# Altium footprint library SOT95P237X112-3N-2-V.PcbLib: 1 footprints
Each footprint in its own frame and in the unit in brackets; x right, y up, seen from the top. Pads: shape width x height; smd on the part's side, far side on the other; paste and mask are expansions set on the pad; w line width, h text height; cw(c..) or ccw(c..) is an arc to the next point about the centre after c.
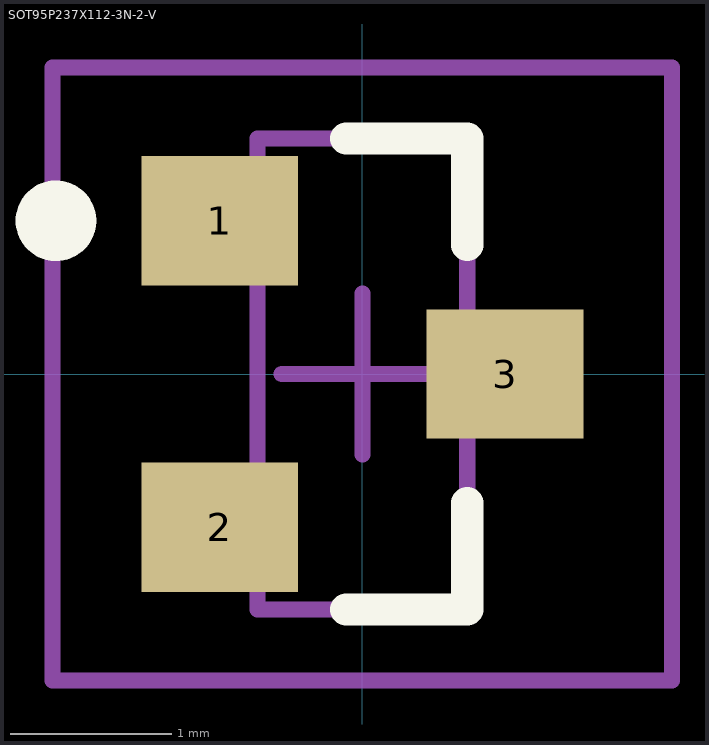
[diagram p0: the footprint, top view; thin cyan lines are the x and y axes]

## SOT95P237X112-3N-2-V [mm] "SOT,0.95mm pitch;3 pin,1.30mm W X 2.92mm L X 1.12mm H body"
height 1.12
pads (3):
  rect 0.972x0.802 smd paste+0 mask+0: 1(-0.885,0.95) 2(-0.885,-0.95) 3(0.885,0)
Top Overlay:
  circle w0.25: c-1.9,0.95 r0.125
  lines w0.2: -0.1,-1.46 0.65,-1.46 0.65,-0.8 ; -0.1,1.46 0.65,1.46 0.65,0.8
M13 (CMP_Body_OTL_Top):
  lines w0.1: -0.65,-1.46 0.65,-1.46 0.65,1.46 -0.65,1.46 -0.65,-1.46
M15 (CMP_Courtyard_Top):
  lines w0.1: -0.5,0 0.5,0 ; 0,-0.5 0,0.5 ; -1.921,-1.901 -1.921,1.901 1.921,1.901 1.921,-1.901 -1.921,-1.901
3D body "SOT23-3-X1.stp": height 1.12, standoff 0, extent -1.2,-1.46 1.2,1.46